# Altium schematic symbol library PDTA123JU.SchLib: 1 symbol
Pins are listed as number, name and electrical type; pins without a type are passive.

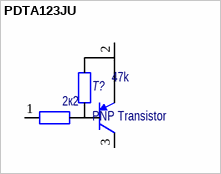
[diagram p0: symbol PDTA123JU]

## PDTA123JU
designator T?, comment PNP Transistor
PNP Resistor-Equipped Transistor (RET); назначение: транзистор; наименование: PDTA123JU; Datasheet: https://static.chipdip.ru/lib/411/DOC012411012.pdf
footprint SOT323
pins: 1 B, 2 E, 3 C
text: 47k; 2к2